# EAGLE library part SD-CARD (library we-con)
SD-Card Socket
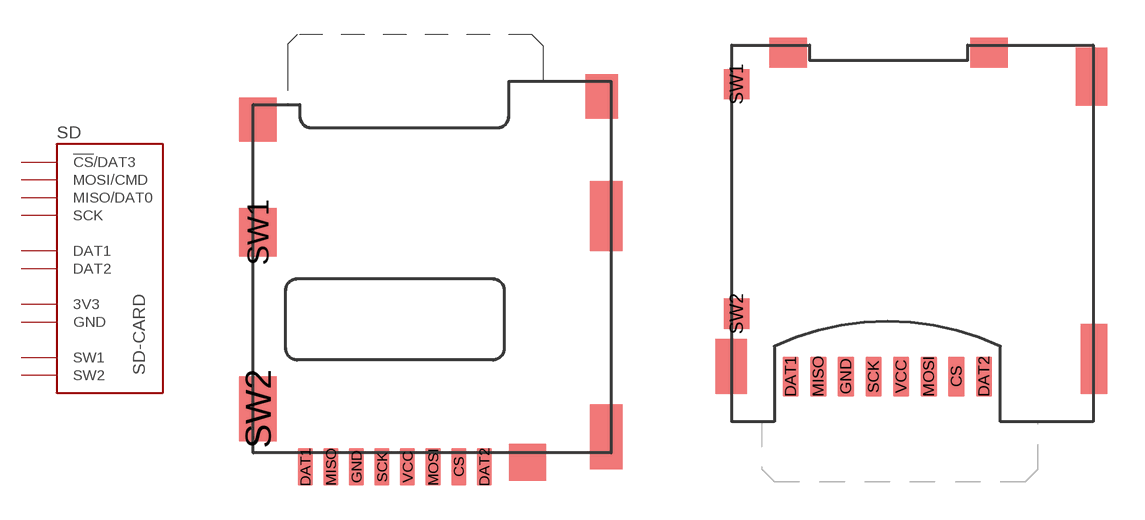
[diagram p0: symbol with the pads of SD_492250821; footprints SD_492250821, SD_5031821853]

Designator prefix SD

## SD-CARD-MSD49  [SD_492250821]
CS  !CS!/DAT3
DAT1  DAT1
DAT2  DAT2
GND  GND
MISO  MISO/DAT0
MOSI  MOSI/CMD
SCK  SCK
SW1  SW1
SW2  SW2
VCC  3V3

## SD-CARD-MSD50 (DIGIKEY: WM9750TR-ND)  [SD_5031821853]
Pads as for SD_492250821

## SD-CARD-SD  [SD_SDBMF00915B0T2]
CS  !CS!/DAT3
DAT1  DAT1
DAT2  DAT2
GND@1  GND
GND@2  GND
GND@3  GND
MISO  MISO/DAT0
MOSI  MOSI/CMD
SCK  SCK
SW1  SW1
SW2  SW2
VCC  3V3

## SD-CARD-MSD47  [SD_47309XXXX]
CS  !CS!/DAT3
DAT1  DAT1
DAT2  DAT2
GND  GND
GND@1  GND
GND@2  GND
MISO  MISO/DAT0
MOSI  MOSI/CMD
SCK  SCK
SW1  SW1
SW2  SW2
VCC  3V3

## Footprint SD_492250821 (pad centres in mm)
Molex 492250821 (EOL)
smd 0.65 x 1.6: CS 2.75,0.8; DAT1 -3.85,0.8; DAT2 3.85,0.8; GND -1.65,0.8; MISO -2.75,0.8; MOSI 1.65,0.8; SCK -0.55,0.8; VCC 0.55,0.8
smd 1.6 x 2.1: SW1 -5.89,10.9
smd 1.6 x 2.8: SW2 -5.89,3.3

## Footprint SD_5031821853 (pad centres in mm)
Molex 5031821852 (compatible with 5031821853 and 5031821832)
smd 0.65 x 1.6: CS 2.75,0.8; DAT1 -3.85,0.8; DAT2 3.85,0.8; GND -1.65,0.8; MISO -2.75,0.8; MOSI 1.65,0.8; SCK -0.55,0.8; VCC 0.55,0.8
smd 1 x 1.2: SW1 -6,12.45; SW2 -6,3.3

## Footprint SD_SDBMF00915B0T2 (pad centres in mm)
Multicomb SDBMF00915B0T2
smd 1.1 x 4.5: CS -6.65,2.8; DAT1 10,2.8; GND@1 -1.65,2.8; GND@2 5.85,2.8; MISO 8.35,2.8; MOSI -4.15,2.8; SCK 3.35,2.8; VCC 0.85,2.8
smd 1.1 x 2.3: DAT2 -9.15,3.9
smd 1.45 x 2.2: GND@3 13.8,13.5
smd 1.4 x 2: SW1 11.9,-14.5
smd 1.45 x 2: SW2 13.8,-14.5
hole 1.4 at 12,8.2
hole 1.4 at -12,8.2

## Footprint SD_47309XXXX (pad centres in mm)
Molex 047309XXXX 047309-2651 - height 2.65mm 047309-2851 - height 2.85mm 047309-3351 - height 3.35mm 047309-3551 - height 3.55mm 047309-3751 - height 3.75mm
smd 0.65 x 1.3: CS 2.75,4.3; DAT1 -3.85,4.3; DAT2 3.85,4.3; GND -1.65,4.3; MISO -2.75,4.3; MOSI 1.65,4.3; SCK -0.55,4.3; VCC 0.55,4.3
smd 1.2 x 3.8: GND@1 -5,1.65
smd 1.45 x 1.4: GND@2 5.5,2.45
smd 1 x 0.6: SW1 5.7,1.2
smd 0.95 x 0.85: SW2 4.75,0.15